# Altium integrated library IRF7821PBF.IntLib: 1 symbol
Pins are listed as number, name and electrical type; pins without a type are passive.

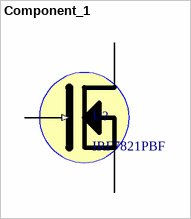
[diagram p0: symbol Component_1]

## Component_1
designator U?, comment IRF7821PBF
MOSFET Transistor, N Channel, 13.6 A, 30 V, 0.0091 ohm, 10 V, 1 V. Used with TPS51116.; Manufacturer: INFINEON; Designer: Faheem; Company: PhasePhotonics; Data Sheet URL: https://www.infineon.com/dgdl/irf7821pbf.pdf?fileId=5546d462533600a401535608d7f31d06; Buyer URL: https://uk.farnell.com/infineon/irf7821pbf/mosfet-n-logic-so-8/dp/1013495?ost=IRF7821PBF&ddkey=https%3Aen-GB%2FElement14_United_Kingdom%2Fsearch; Manufacturer Part No: IRF7821PBF
footprint SOIC127P600X175-8N
pins: 1,2,3 S, 4 G (in), 8,7,6,5 D